# Altium footprint library UserPcbLib.PcbLib: 12 footprints
Each footprint in its own frame and in the unit in brackets; x right, y up, seen from the top. Pads: shape width x height; smd on the part's side, far side on the other; paste and mask are expansions set on the pad; w line width, h text height; cw(c..) or ccw(c..) is an arc to the next point about the centre after c.
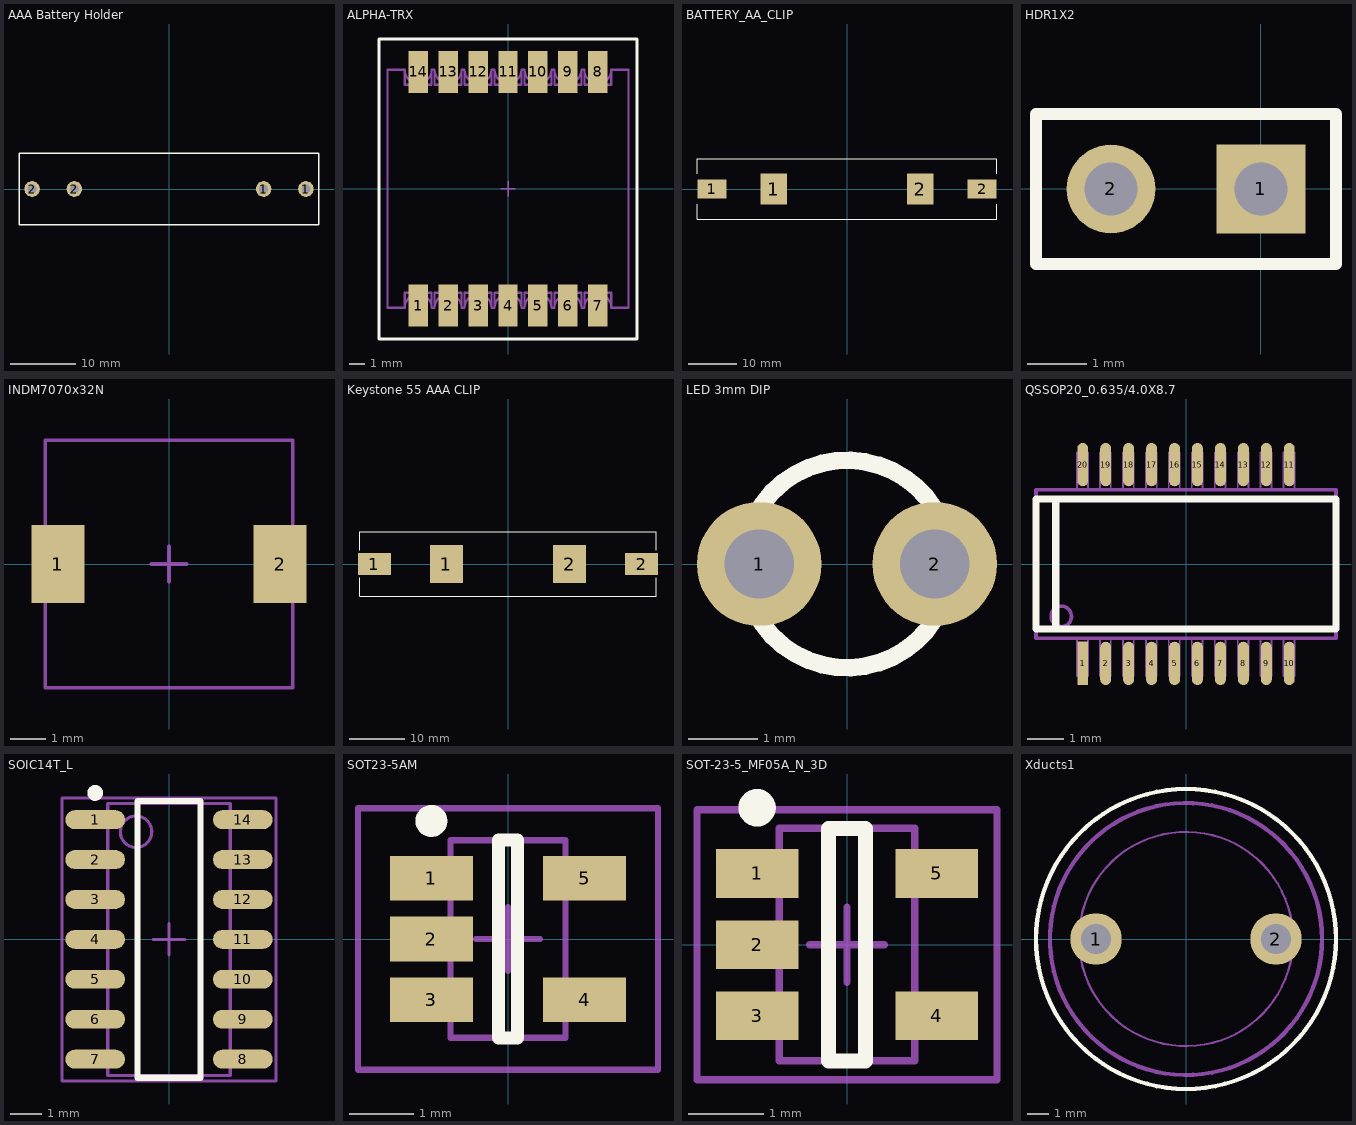
[diagram p0: the footprints below, top view; thin cyan lines are the x and y axes]

## AAA Battery Holder [mm]
pads (4):
  round 2.4 hole 1.4: 1(14.5,0) 1(21,0) 2(-21,0) 2(-14.5,0)
Top Overlay:
  lines w0.2: -23,-5.5 -23,5.5 23,5.5 23,-5.5 -23,-5.5

## ALPHA-TRX [mm] "ALPHA RF MODULES"
height 4.2
pads (14):
  rect 1.3x2.8 smd: 1(-6,-7.8) 2(-4,-7.8) 3(-2,-7.8) 4(0,-7.8) 5(2,-7.8) 6(4,-7.8) 7(6,-7.8) 8(6,7.8) 9(4,7.8) 10(2,7.8) 11(0,7.8) 12(-2,7.8) 13(-4,7.8) 14(-6,7.8)
Top Overlay:
  lines w0.2: -8.6,-10.033 8.6,-10.033 8.6,10 -8.6,10 -8.6,-10.033
Mechanical 1:
  lines w0.1: -0.5,0 0.5,0 ; 0,-0.5 0,0.5
Mechanical 15:
  lines w0.15: -6.9,-7.95 cw(c-6,-7.95) -5.1,-7.95 ; -6.9,-7.95 -6.9,-6.95 -5.1,-6.95 -5.1,-7.95 ; -6.9,-7.95 -8.05,-7.95 -8.05,7.95 -6.9,7.95 ; -6.9,7.95 ccw(c-6,7.95) -5.1,7.95 ; -6.9,7.95 -6.9,6.95 -5.1,6.95 -5.1,7.95 ; -5.1,-7.95 -4.9,-7.95 ; -5.1,7.95 -4.9,7.95 ; -4.9,-7.95 cw(c-4,-7.95) -3.1,-7.95 ; -4.9,-7.95 -4.9,-6.95 -3.1,-6.95 -3.1,-7.95 ; -4.9,7.95 ccw(c-4,7.95) -3.1,7.95 ; -4.9,7.95 -4.9,6.95 -3.1,6.95 -3.1,7.95 ; -3.1,-7.95 -2.9,-7.95 ; -3.1,7.95 -2.9,7.95 ; -2.9,-7.95 cw(c-2,-7.95) -1.1,-7.95 ; -2.9,-7.95 -2.9,-6.95 -1.1,-6.95 -1.1,-7.95 ; -2.9,7.95 ccw(c-2,7.95) -1.1,7.95 ; -2.9,7.95 -2.9,6.95 -1.1,6.95 -1.1,7.95 ; -1.1,-7.95 -0.9,-7.95 ; -1.1,7.95 -0.9,7.95 ; -0.9,-7.95 cw(c0,-7.95) 0.9,-7.95 ; -0.9,-7.95 -0.9,-6.95 0.9,-6.95 0.9,-7.95 ; -0.9,7.95 ccw(c0,7.95) 0.9,7.95 ; -0.9,7.95 -0.9,6.95 0.9,6.95 0.9,7.95 ; 0.9,-7.95 1.1,-7.95 ; 0.9,7.95 1.1,7.95 ; 1.1,-7.95 cw(c2,-7.95) 2.9,-7.95 ; 1.1,-7.95 1.1,-6.95 2.9,-6.95 2.9,-7.95 ; 1.1,7.95 ccw(c2,7.95) 2.9,7.95 ; 1.1,7.95 1.1,6.95 2.9,6.95 2.9,7.95 ; 2.9,-7.95 3.1,-7.95 ; 2.9,7.95 3.1,7.95 ; 3.1,-7.95 cw(c4,-7.95) 4.9,-7.95 ; 3.1,-7.95 3.1,-6.95 4.9,-6.95 4.9,-7.95 ; 3.1,7.95 ccw(c4,7.95) 4.9,7.95 ; 3.1,7.95 3.1,6.95 4.9,6.95 4.9,7.95 ; 4.9,-7.95 5.1,-7.95 ; 4.9,7.95 5.1,7.95 ; 5.1,-7.95 cw(c6,-7.95) 6.9,-7.95 ; 5.1,-7.95 5.1,-6.95 6.9,-6.95 6.9,-7.95 ; 5.1,7.95 ccw(c6,7.95) 6.9,7.95 ; 5.1,7.95 5.1,6.95 6.9,6.95 6.9,7.95 ; 6.9,-7.95 8.05,-7.95 8.05,7.95 6.9,7.95

## BATTERY_AA_CLIP [mm] "KEYSTONE 53 BATTERY CLIP, A/AA, THT"
height 14.4
pads (4):
  rect 6x4 smd: 1(-28.03,0) 2(28.03,0)
  rect 5.5x6.5 smd: 1(-15.18,0) 2(15.18,0)
Top Overlay:
  lines w0.2: -31.115,-3.175 -31.115,-6.3 31.115,-6.3 31.115,-3.175 ; -31.115,3.175 -31.115,6.3 31.115,6.3 31.115,3.175
3D body: height 13.19, standoff 0.01, extent -30.102,-5.567 -13.061,5.567
3D body: height 13.19, standoff 0.01, extent 13.062,-5.567 30.102,5.568

## HDR1X2 [mm] "Connector; Header; 2 Position"
pads (2):
  rect 1.5x1.5 hole 0.9: 1(0,0)
  round 1.5 hole 0.9: 2(-2.54,0)
Top Overlay:
  lines w0.2: -3.81,-1.27 1.27,-1.27 1.27,1.27 -3.81,1.27 -3.81,-1.27

## INDM7070x32N [mm] "Inductor 7x7x3.2mm"
height 3.2
pads (2):
  rect 1.5x2.2 smd: 1(-3.15,0) 2(3.15,0)
Mechanical 13:
  lines w0.1: -3.5,-3.5 -3.5,3.5 3.5,3.5 3.5,-3.5 -3.5,-3.5
Mechanical 15:
  lines w0.1: -0.5,0 0.5,0 ; 0,-0.5 0,0.5

## Keystone 55 AAA CLIP [mm] "KEYSTONE 55 BATTERY CLIP AAA"
height 12.6
pads (4):
  rect 6x4 smd: 1(-24.32,0) 2(24.32,0)
  rect 6x7 smd: 1(-11.24,0) 2(11.24,0)
Top Overlay:
  lines w0.2: -27,-2.5 -27,-5.845 27,-5.845 27,-2.5 ; -27,2.5 -27,5.845 27,5.845 27,2.5
3D body: height 13.19, standoff 0.01, extent -26.292,-5.567 -9.251,5.567
3D body: height 13.19, standoff 0.01, extent 9.252,-5.567 26.292,5.567

## LED 3mm DIP [mm]
pads (2):
  round 1.8 hole 1: 1(-1.27,0) 2(1.27,0)
Top Overlay:
  circle w0.254: c0,0 r1.5
3D body: height 6.51, standoff 0.01, extent -1.581,-1.75 1.75,1.75

## QSSOP20_0.635/4.0X8.7 [mm]
height 1.75
pads (20):
  rect 0.3x1.2 smd paste-0.02 mask+0.05: 1(-2.857,-2.75)
  oval 0.3x1.2 smd paste-0.02 mask+0.05: 2(-2.222,-2.75) 3(-1.587,-2.75) 4(-0.953,-2.75) 5(-0.318,-2.75) 6(0.318,-2.75) 7(0.953,-2.75) 8(1.587,-2.75) 9(2.222,-2.75) 10(2.857,-2.75) 11(2.857,2.75) 12(2.222,2.75) 13(1.587,2.75) 14(0.953,2.75) 15(0.318,2.75) 16(-0.318,2.75) 17(-0.953,2.75) 18(-1.587,2.75) 19(-2.222,2.75) 20(-2.857,2.75)
Top Overlay:
  lines w0.203: -3.6,-1.8 -3.6,1.8 ; -4.15,-1.8 -4.15,1.8 4.15,1.8 4.15,-1.8 -4.15,-1.8
Mechanical 15:
  circle w0.1: c-3.45,-1.45 r0.283
  lines w0.05: -3.015,-2.05 -3.015,-3.1 -2.715,-3.1 -2.715,-2.05 ; -3.015,2.04 -3.015,3.09 -2.715,3.09 -2.715,2.04 ; -3.01,2.495 -2.735,2.495 ; -2.995,-2.505 -2.72,-2.505 ; -2.38,-2.05 -2.38,-3.1 -2.08,-3.1 -2.08,-2.05 ; -2.38,2.04 -2.38,3.09 -2.08,3.09 -2.08,2.04 ; -2.375,2.495 -2.1,2.495 ; -2.36,-2.505 -2.085,-2.505 ; -1.745,-2.05 -1.745,-3.1 -1.445,-3.1 -1.445,-2.05 ; -1.745,2.04 -1.745,3.09 -1.445,3.09 -1.445,2.04 ; -1.74,2.495 -1.465,2.495 ; -1.725,-2.505 -1.45,-2.505 ; -1.11,-2.05 -1.11,-3.1 -0.81,-3.1 -0.81,-2.05 ; -1.11,2.04 -1.11,3.09 -0.81,3.09 -0.81,2.04 ; -1.105,2.495 -0.83,2.495 ; -1.09,-2.505 -0.815,-2.505 ; -0.475,-2.05 -0.475,-3.1 -0.175,-3.1 -0.175,-2.05 ; -0.475,2.04 -0.475,3.09 -0.175,3.09 -0.175,2.04 ; -0.47,2.495 -0.195,2.495 ; -0.455,-2.505 -0.18,-2.505 ; 0.16,-2.05 0.16,-3.1 0.46,-3.1 0.46,-2.05 ; 0.16,2.04 0.16,3.09 0.46,3.09 0.46,2.04 ; 0.165,2.495 0.44,2.495 ; 0.18,-2.505 0.455,-2.505 ; 0.795,-2.05 0.795,-3.1 1.095,-3.1 1.095,-2.05 ; 0.795,2.04 0.795,3.09 1.095,3.09 1.095,2.04 ; 0.8,2.495 1.075,2.495 ; 0.815,-2.505 1.09,-2.505 ; 1.43,-2.05 1.43,-3.1 1.73,-3.1 1.73,-2.05 ; 1.43,2.04 1.43,3.09 1.73,3.09 1.73,2.04 ; 1.435,2.495 1.71,2.495 ; 1.45,-2.505 1.725,-2.505 ; 2.065,-2.05 2.065,-3.1 2.365,-3.1 2.365,-2.05 ; 2.065,2.04 2.065,3.09 2.365,3.09 2.365,2.04 ; 2.07,2.495 2.345,2.495 ; 2.085,-2.505 2.36,-2.505 ; 2.7,-2.05 2.7,-3.1 3,-3.1 3,-2.05 ; 2.7,2.04 2.7,3.09 3,3.09 3,2.04 ; 2.705,2.495 2.98,2.495 ; 2.72,-2.505 2.995,-2.505
  lines w0.1: -4.15,-2.05 -4.15,2.05 4.15,2.05 4.15,-2.05 -4.15,-2.05
  text ".Comment" at -2.566,-1.002 h0.9
  text ".Designator" at -2.765,0.226 h1.12
3D body: height 1.75, standoff 0, extent -4.149,-2.049 4.149,2.049

## SOIC14T_L [mm] "14-Pin Small Outline Integrated Circuit 1.27 mm Pitch, IPC High Density"
height 1.91
pads (14):
  oval 1.9x0.6 smd: 1(-2.35,3.81) 2(-2.35,2.54) 3(-2.35,1.27) 4(-2.35,0) 5(-2.35,-1.27) 6(-2.35,-2.54) 7(-2.35,-3.81) 8(2.35,-3.81) 9(2.35,-2.54) 10(2.35,-1.27) 11(2.35,0) 12(2.35,1.27) 13(2.35,2.54) 14(2.35,3.81)
Top Overlay:
  circle w0.25: c-2.35,4.66 r0.125
  lines w0.2: -1,-4.4 -1,4.4 1,4.4 1,-4.4 -1,-4.4
Mechanical 13:
  circle w0.1: c-1.05,3.425 r0.5
  lines w0.1: -1.95,-4.325 -1.95,4.325 1.95,4.325 1.95,-4.325 -1.95,-4.325
Mechanical 15:
  lines w0.1: -0.5,0 0.5,0 ; 0,-0.5 0,0.5 ; -3.4,-4.5 -3.4,4.5 3.4,4.5 3.4,-4.5 -3.4,-4.5
3D body: height 1.91, standoff 0, extent -1.95,-4.325 1.95,4.325

## SOT23-5AM [mm] "SOT23, 5-Leads, Body 2.9x1.7mm, Pitch 0.95mm, Lead Span 2.8mm, IPC Low Density"
height 1.45
pads (5):
  rect 1.3x0.7 smd: 1(-1.2,0.95) 2(-1.2,0) 3(-1.2,-0.95) 4(1.2,-0.95) 5(1.2,0.95)
Top Overlay:
  circle w0.25: c-1.2,1.85 r0.125
  lines w0.2: -0.15,-1.55 0.15,-1.55 0.15,1.55 -0.15,1.55 -0.15,-1.55
Mechanical 13:
  lines w0.1: -0.9,-1.55 -0.9,1.55 0.9,1.55 0.9,-1.55 -0.9,-1.55
Mechanical 15:
  lines w0.1: -0.5,0 0.5,0 ; 0,-0.5 0,0.5 ; -2.35,-2.05 -2.35,2.05 2.35,2.05 2.35,-2.05 -2.35,-2.05
3D body: height 1.45, standoff 0, extent -0.9,-1.55 0.9,1.55

## SOT-23-5_MF05A_N_3D [mm] "National Semiconductor_SOT23, 5-Leads, Body 2.9x1.6mm, Pitch 0.95mm, Lead Span 2.8mm, IPC Medium Density"
height 1.19
pads (5):
  rect 1.1x0.65 smd: 1(-1.2,0.95) 2(-1.2,0) 3(-1.2,-0.95) 4(1.2,-0.95) 5(1.2,0.95)
Top Overlay:
  circle w0.25: c-1.2,1.825 r0.125
  lines w0.2: -0.25,-1.55 0.25,-1.55 0.25,1.55 -0.25,1.55 -0.25,-1.55
Mechanical 13:
  lines w0.1: -0.9,-1.55 -0.9,1.55 0.9,1.55 0.9,-1.55 -0.9,-1.55
Mechanical 15:
  lines w0.1: -0.5,0 0.5,0 ; 0,-0.5 0,0.5 ; -2,-1.8 -2,1.8 2,1.8 2,-1.8 -2,-1.8
3D body: height 1.45, standoff -0.01, extent -1.46,-1.545 1.43,1.505

## Xducts1 [mm] "400ST/R120"
height 20
pads (2):
  round 2.4 hole 1.4: 1(-4.2,0) 2(4.2,0)
Top Overlay:
  circle w0.2: c0,0 r7
Mechanical 15:
  circle w0.2: c0,0 r6.35
  circle w0.1: c0,0 r5
3D body: height 20, standoff 0, extent -6.35,-6.35 6.35,6.35